# Altium footprint library IC_Texas_Instruments_SN74HC595BRWNR_eec_MFG.PcbLib: 1 footprints
Each footprint in its own frame and in the unit in brackets; x right, y up, seen from the top. Pads: shape width x height; smd on the part's side, far side on the other; paste and mask are expansions set on the pad; w line width, h text height; cw(c..) or ccw(c..) is an arc to the next point about the centre after c.
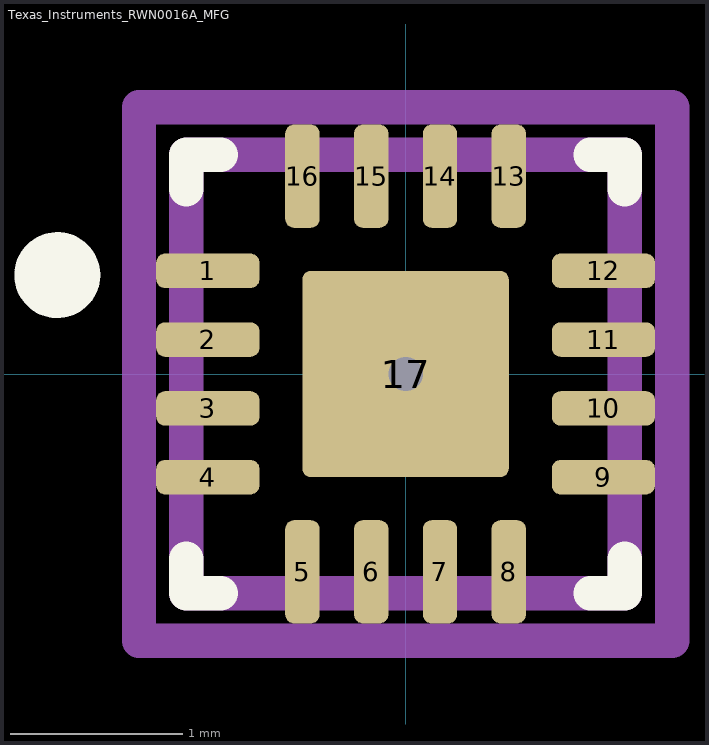
[diagram p0: the footprint, top view; thin cyan lines are the x and y axes]

## Texas_Instruments_RWN0016A_MFG [mm]
pads (17):
  rrect50% 0.6x0.2 smd paste+0 mask+0: 1(-1.15,0.6) 2(-1.15,0.2) 3(-1.15,-0.2) 4(-1.15,-0.6) 9(1.15,-0.6) 10(1.15,-0.2) 11(1.15,0.2) 12(1.15,0.6)
  rrect50% 0.2x0.6 smd paste+0 mask+0: 5(-0.6,-1.15) 6(-0.2,-1.15) 7(0.2,-1.15) 8(0.6,-1.15) 13(0.6,1.15) 14(0.2,1.15) 15(-0.2,1.15) 16(-0.6,1.15)
  rrect8% 1.2x1.2 smd paste-1000 mask+0: 17(0,0)
via 0,0 diameter 0.5 hole 0.2
Top Overlay:
  circle w0.25: c-2.025,0.575 r0.125
  lines w0.2: -1.275,-1.075 -1.275,-1.275 -1.075,-1.275 ; -1.275,1.075 -1.275,1.275 -1.075,1.275 ; 1.075,-1.275 1.275,-1.275 1.275,-1.075 ; 1.075,1.275 1.275,1.275 1.275,1.075
Top Paste:
  region: 0.565,-0.515 0.565,-0.525 0.557,-0.543 0.543,-0.557 0.525,-0.565 0.515,-0.565 -0.515,-0.565 -0.525,-0.565 -0.543,-0.557 -0.557,-0.543 -0.565,-0.525 -0.565,-0.515 -0.565,0.515 -0.565,0.525 -0.557,0.543 -0.543,0.557 -0.525,0.565 -0.515,0.565 0.515,0.565 0.525,0.565 0.543,0.557 0.557,0.543 0.565,0.525 0.565,0.515
Mechanical 10:
  lines w0.2: -1.55,-1.55 1.55,-1.55 1.55,1.55 -1.55,1.55 -1.55,-1.55
  text ".Designator" at 0,0.188 h1
Mechanical 12:
  lines w0.2: -1.275,-1.275 1.275,-1.275 1.275,1.275 -1.275,1.275 -1.275,-1.275
Mechanical 15:
  lines w0.1: -0.5,0 0.5,0 ; 0,-0.5 0,0.5
  lines w0.2: -1.55,-1.55 1.55,-1.55 1.55,1.55 -1.55,1.55 -1.55,-1.55
3D body "IC_Texas_Instruments_SN74HC595BRWNR_eec.STEP": height 0.25, standoff 0, extent -1.55,-1.55 1.55,1.55